# Altium schematic symbol library SOI8_Level_shift.SchLib: 1 symbol
Pins are listed as number, name and electrical type; pins without a type are passive.

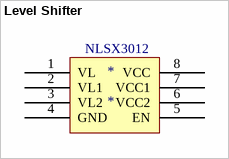
[diagram p0: symbol Level Shifter]

## Level Shifter
designator *
footprint SOI8 Package
pins: 1 VL, 2 VL1, 3 VL2, 4 GND, 5 EN, 6 VCC2, 7 VCC1, 8 VCC
text: NLSX3012